# Altium footprint library MSE312_SIMRACER.PcbLib: 3 footprints
Each footprint in its own frame and in the unit in brackets; x right, y up, seen from the top. Pads: shape width x height; smd on the part's side, far side on the other; paste and mask are expansions set on the pad; w line width, h text height; cw(c..) or ccw(c..) is an arc to the next point about the centre after c.
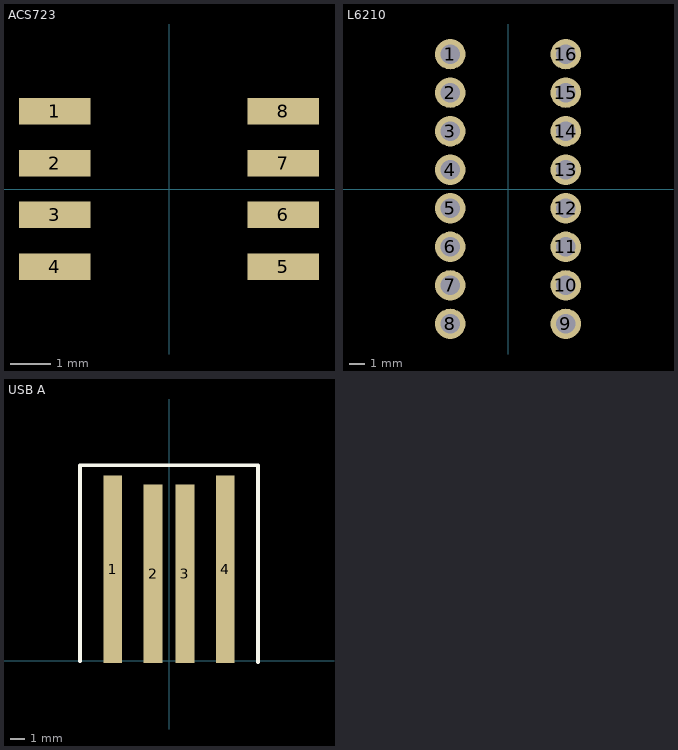
[diagram p0: the footprints below, top view; thin cyan lines are the x and y axes]

## ACS723 [mm]
pads (8):
  rect 1.75x0.65 smd: 1(-2.8,1.905) 2(-2.8,0.635) 3(-2.8,-0.635) 4(-2.8,-1.905) 5(2.8,-1.905) 6(2.8,-0.635) 7(2.8,0.635) 8(2.8,1.905)
3D body "8SIOC.stp": height 2, standoff 0.05, extent -3.099,-2.502 3.099,2.502

## L6210 [mm] "SHOTTKY DIODE 4-CHANNEL BRIDGE"
pads (16):
  round 2 hole 1.27: 1(-3.81,8.89) 2(-3.81,6.35) 3(-3.81,3.81) 4(-3.81,1.27) 5(-3.81,-1.27) 6(-3.81,-3.81) 7(-3.81,-6.35) 8(-3.81,-8.89) 9(3.81,-8.89) 10(3.81,-6.35) 11(3.81,-3.81) 12(3.81,-1.27) 13(3.81,1.27) 14(3.81,3.81) 15(3.81,6.35) 16(3.81,8.89)
3D body "pdip16.STEP": height 4, standoff -3.4, extent -4.127,-9.525 3.873,9.475

## USB A [mil]
pads (4):
  rect 50x500 smd: 1(-150,245) 4(150,245)
  rect 50x475 smd: 2(-42.5,232.5) 3(42.5,232.5)
Top Overlay:
  lines w10: -237.5,0 -237.5,521.99 ; 237.48,-2.99 237.48,522.01 -237.52,522.01 ; -237.52,522.01 -237.5,521.99